# Altium schematic symbol library Schlib1.SchLib: 1 symbol
Pins are listed as number, name and electrical type; pins without a type are passive.

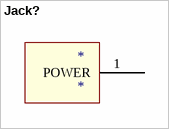
[diagram p0: symbol Jack?]

## Jack?
designator *
footprint jack_coc_loa
pins: 1 POWER (power)